# Altium schematic symbol library BAT54CLT1G.SchLib: 2 symbols
Pins are listed as number, name and electrical type; pins without a type are passive.

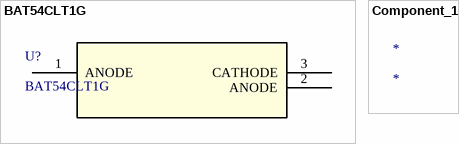
[diagram p0: symbols BAT54CLT1G to Component_1]

## BAT54CLT1G
designator U?
No Description Available; Mfr_Name: ON Semiconductor; Copyright: Copyright (C) 2021 Ultra Librarian. All rights reserved.; Manufacturer_Part_Number: BAT54CLT1G; Digi-Key_Part_Number_1: 2156-BAT54CLT1G-OS-ND; Digi-Key_Part_Number_2: BAT54CLT1GOSTR-ND; Digi-Key_Part_Number_3: BAT54CLT1GOSCT-ND; Digi-Key_Part_Number_4: BAT54CLT1GOSDKR-ND; RefDes: RefDes; Type: DEV
footprint SOT-23-3_1P4X3P040_ONS
pins: 1 ANODE, 2 ANODE, 3 CATHODE

## Component_1
designator *